# Altium schematic symbol library Components - 05.03.21 - 13.08.SchLib: 1 symbol
Pins are listed as number, name and electrical type; pins without a type are passive.

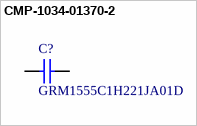
[diagram p0: symbol CMP-1034-01370-2]

## CMP-1034-01370-2
designator C?, comment GRM1555C1H221JA01D
Manufacturer: Murata; Part Number: GRM1555C1H221JA01D
footprint CAPC1005X55X25LL05T10 (Chip Capacitor, 2-Leads, Body 1.00x0.50mm, IPC High Density)
footprint CAPC1005X55X25NL05T10 (Chip Capacitor, 2-Leads, Body 1.00x0.50mm, IPC Medium Density)
footprint CAPC1005X55X25ML05T10 (Chip Capacitor, 2-Leads, Body 1.00x0.50mm, IPC Low Density)
pins: 1, 2
1 alternate drawing of the same symbol